# Altium integrated library 35WR10KLFTR.IntLib: 1 symbol
Pins are listed as number, name and electrical type; pins without a type are passive.

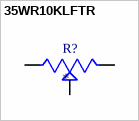
[diagram p0: symbol 35WR10KLFTR]

## 35WR10KLFTR
designator R?
10 kOhms 0.1W, 1/10W Surface Mount Surface Mount Trimmer Potentiometer Cermet 1.0 Turn Top Adjustment; MF: TT; MP: 35WR10KLFTR; SnapEDA_Link: https://www.snapeda.com/parts/35WR10KLFTR/TT+Electronics%252FBI/view-part/?ref=snap; Package: FakePackage u; Value: *; Check_prices: https://www.snapeda.com/parts/35WR10KLFTR/TT+Electronics%252FBI/view-part/?ref=eda
footprint TRIM_35WR10KLFTR
pins: 1, 2, 3